# Altium schematic symbol library Mylib.SchLib: 3 symbols
Pins are listed as number, name and electrical type; pins without a type are passive.

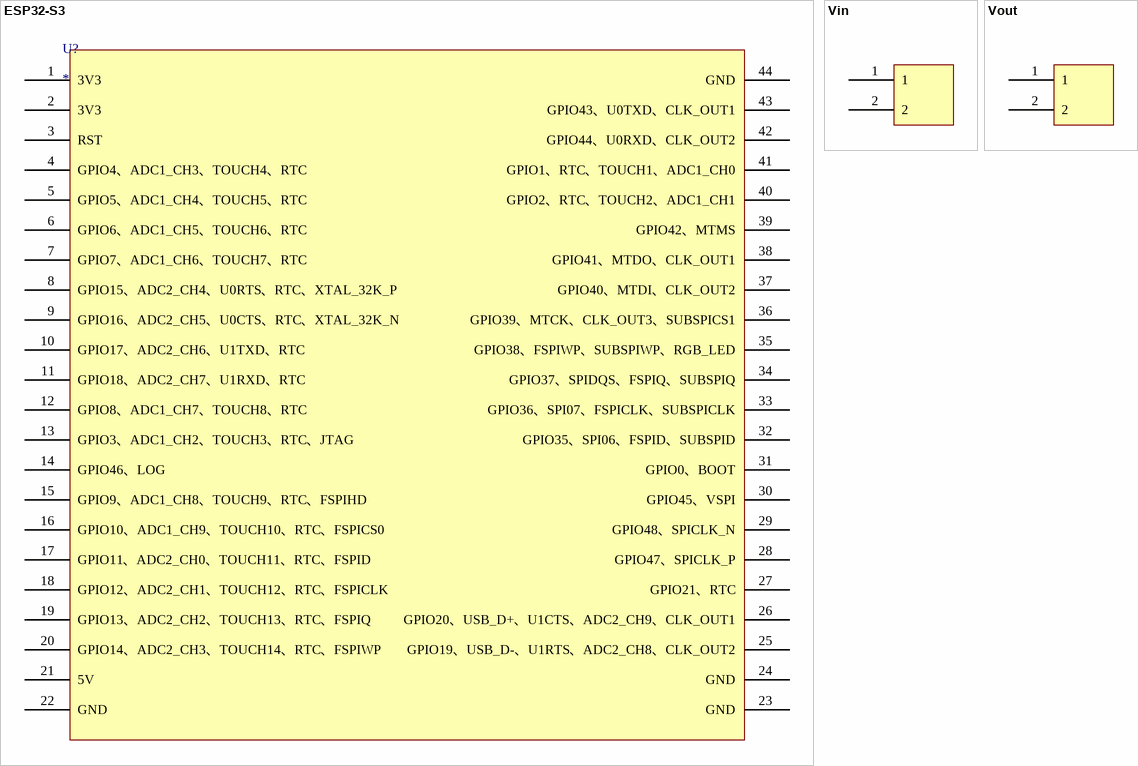
[diagram p0: symbols ESP32-S3 to Vout]

## ESP32-S3
designator U?
footprint ESP32-S3
pins: 1 3V3 (power), 2 3V3 (power), 3 RST, 4 GPIO4、ADC1_CH3、TOUCH4、RTC, 5 GPIO5、ADC1_CH4、TOUCH5、RTC, 6 GPIO6、ADC1_CH5、TOUCH6、RTC, 7 GPIO7、ADC1_CH6、TOUCH7、RTC, 8 GPIO15、ADC2_CH4、U0RTS、RTC、XTAL_32K_P, 9 GPIO16、ADC2_CH5、U0CTS、RTC、XTAL_32K_N, 10 GPIO17、ADC2_CH6、U1TXD、RTC, 11 GPIO18、ADC2_CH7、U1RXD、RTC, 12 GPIO8、ADC1_CH7、TOUCH8、RTC, 13 GPIO3、ADC1_CH2、TOUCH3、RTC、JTAG, 14 GPIO46、LOG, 15 GPIO9、ADC1_CH8、TOUCH9、RTC、FSPIHD, 16 GPIO10、ADC1_CH9、TOUCH10、RTC、FSPICS0, 17 GPIO11、ADC2_CH0、TOUCH11、RTC、FSPID, 18 GPIO12、ADC2_CH1、TOUCH12、RTC、FSPICLK, 19 GPIO13、ADC2_CH2、TOUCH13、RTC、FSPIQ, 20 GPIO14、ADC2_CH3、TOUCH14、RTC、FSPIWP, 21 5V, 22 GND, 23 GND, 24 GND, 25 GPIO19、USB_D-、U1RTS、ADC2_CH8、CLK_OUT2, 26 GPIO20、USB_D+、U1CTS、ADC2_CH9、CLK_OUT1, 27 GPIO21、RTC, 28 GPIO47、SPICLK_P, 29 GPIO48、SPICLK_N, 30 GPIO45、VSPI, 31 GPIO0、BOOT, 32 GPIO35、SPI06、FSPID、SUBSPID, 33 GPIO36、SPI07、FSPICLK、SUBSPICLK, 34 GPIO37、SPIDQS、FSPIQ、SUBSPIQ, 35 GPIO38、FSPIWP、SUBSPIWP、RGB_LED, 36 GPIO39、MTCK、CLK_OUT3、SUBSPICS1, 37 GPIO40、MTDI、CLK_OUT2, 38 GPIO41、MTDO、CLK_OUT1, 39 GPIO42、MTMS, 40 GPIO2、RTC、TOUCH2、ADC1_CH1, 41 GPIO1、RTC、TOUCH1、ADC1_CH0, 42 GPIO44、U0RXD、CLK_OUT2, 43 GPIO43、U0TXD、CLK_OUT1, 44 GND

## Vin
designator ?
pins: 1, 2

## Vout
designator ?
pins: 1, 2